# Altium schematic symbol library 8路抢答器电路设计.SCHLIB: 10 symbols
Pins are listed as number, name and electrical type; pins without a type are passive.

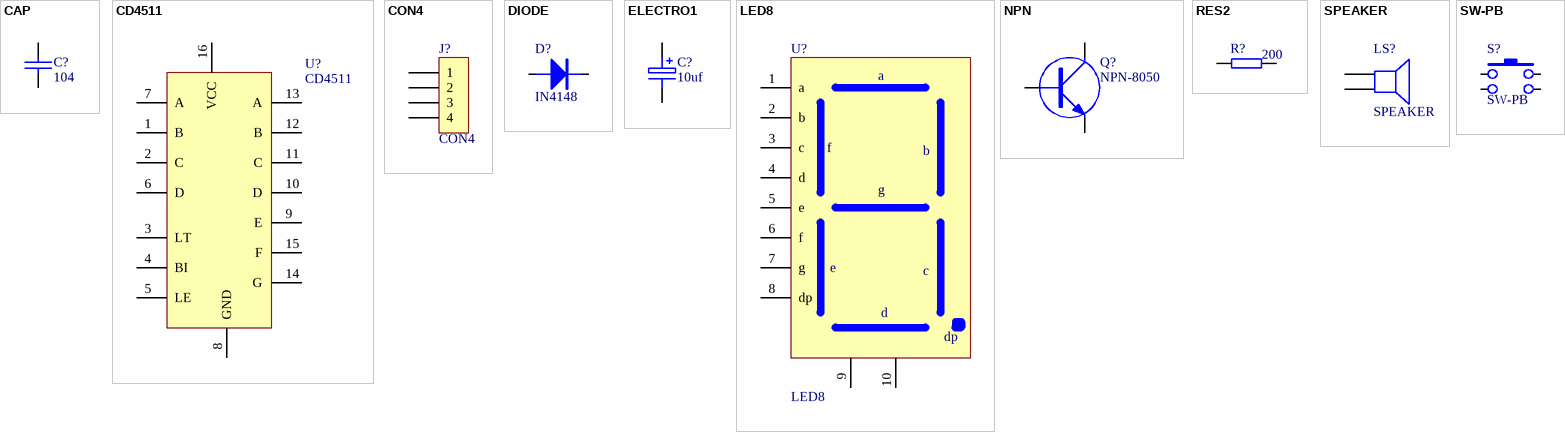
[diagram p0: symbols CAP to SW-PB]

## CAP
designator C?, comment 104
Capacitor
footprint RAD0.1
footprint RAD0.2
footprint R/C0805
footprint R/C1206
footprint R/C0805
pins: 1, 2

## CD4511
designator U?
footprint DIP16
pins: 1 B, 2 C, 3 LT, 4 BI, 5 LE, 6 D, 7 A, 8 GND, 9 E, 10 D, 11 C, 12 B, 13 A, 14 G, 15 F, 16 VCC

## CON4
designator J?
Connector
footprint SIP4
pins: 1, 2, 3, 4

## DIODE
designator D?, comment IN4148
footprint DIODE0.4
footprint DIODE0.3
footprint DIODE0.2
footprint D190
footprint D1206
pins: A, K

## ELECTRO1
designator C?, comment 10uf
Electrolytic Capacitor
footprint RB.1/.2
footprint RB.2/.4
pins: 1, 2

## LED8
designator U?
pins: 1 a, 2 b, 3 c, 4 d, 5 e, 6 f, 7 g, 8 dp, 9 COM, 10 COM

## NPN
designator Q?, comment NPN-8050
footprint TO-92C
footprint TO-92D
footprint TO-39A
pins: B, C, E

## RES2
designator R?, comment 200
footprint AXIAL0.3
footprint AXIAL0.4
footprint AXIAL0.1
footprint AXIAL1.0
footprint R/C0805
footprint R/C0805
pins: 1, 2

## SPEAKER
designator LS?
footprint H
pins: 1, 2

## SW-PB
designator S?
footprint SWPB
pins: 1, 2, 3, 4